# EAGLE library part MA06-2 (library DMClock2018)
Male header, 6 poles
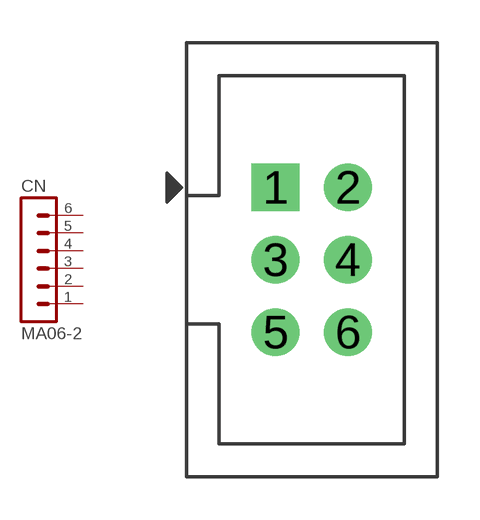
[diagram p5: symbol with the pads of MA06-2_BOX; footprint MA06-2_BOX]

Designator prefix CN

## MA06-2'BOX'  [MA06-2_BOX]
1  1  pas
2  2  pas
3  3  pas
4  4  pas
5  5  pas
6  6  pas

## Footprint MA06-2_BOX (pad centres in mm)
drill 0.9 pad 1.676 square: 1 -1.27,2.54
drill 0.9 pad 1.676 round: 2 1.27,2.54; 3 -1.27,0; 4 1.27,0; 5 -1.27,-2.54; 6 1.27,-2.54